# Altium schematic symbol library Schlib1.SchLib: 6 symbols
Pins are listed as number, name and electrical type; pins without a type are passive.

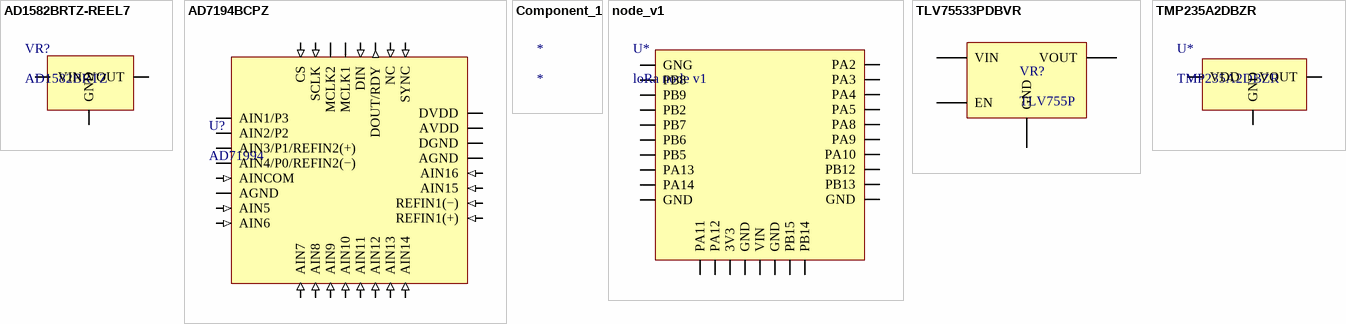
[diagram p0: symbols AD1582BRTZ-REEL7 to TMP235A2DBZR]

## AD1582BRTZ-REEL7
designator VR?, comment AD1582BRTZ
Voltage References 2.5V MICROPOWER REF IC; Manufacturer: Analog Devices; Manufacturer Part Number: AD1582BRTZ-REEL7; Accuracy: 3.5 mV/mA; Description/Function: 2.5 V micropower, precision series mode voltage reference; Input Voltage: 2.7 V to 12 V; Output Current: 5 mA; Temperature Coefficient: 50 PPM/C; Reference Type: Series Precision References; Topology: Series References; Operating Supply Current: 70 uA; Supplier 1: Mouser; RoHS: RoHS Compliant; Category: Voltage References; Stock 1: 7339; Pricing 1: 1=1.97, 10=1.79, 25=1.60, 100=1.46, 250=1.31, 500=1.14, 1000=0.952, 3000=0.919 (EUR); Height: 1.02 mm (Max); Length: 2.9 mm; Output Voltage: 2.5 V; Package / Case: SOT-23-3; Packaging: Cut Tape; Product: Voltage References; Series: AD1582; Width: 1.3 mm; Brand: Analog Devices; Mounting Style: SMD/SMT; Shunt Current - Max: 5 mA; Load Regulation: 3.5 mV/mA; Maximum Operating Temperature: + 125 C; Minimum Operating Temperature: - 40 C; Product Type: Voltage References; Standard Pack Qty: 3000; Subcategory: PMIC - Power Management ICs; RoHS - Mouser: Y; Minimum Order Quantity: 1; Reeling: True; ComponentLink1URL: https://www.mouser.com/datasheet/2/609/AD1582_1583_1584_1585-876960.pdf; ComponentLink1Description: https://www.mouser.com/datasheet/2/609/AD1582_1583_1584_1585-876960.pdf; Supplier Part Number 1: 584-AD1582BRTZ-R7
pins: 1 VOUT (power), 2 GND (power), 3 VIN (power)

## AD7194BCPZ
designator U?, comment AD71994
Analog to Digital Converters - ADC 8CH Ultra Low Noise 24Bit w/ PGA; Manufacturer: Analog Devices; Manufacturer Part Number: AD7194BCPZ; Input Type: Differential/Pseudo-Differential; Input Voltage: +/- 2.5 V; Number of Converters: 1 Converter; Sampling Rate: 4.8 kS/s; Architecture: Sigma-Delta; Interface Type: Serial, 3-Wire, SPI; Number of Channels: 8 Channel; Reference Type: External; Development Kit: EVAL-AD7194EBZ; Gain Error: +/- 0.005 %FSR; INL - Integral Nonlinearity: +/- 30 ppm of FSR; Number of ADC Inputs: 16 Input/8 Input; Operating Supply Voltage: 3.3 V, 5 V; Pd - Power Dissipation: 29 mW; Sample and Hold: No; Supplier 1: Mouser; RoHS: RoHS Compliant; Category: Analog to Digital Converters - ADC; Stock 1: 878; Pricing 1: 1=13.48, 10=12.23, 25=11.49, 50=11.06, 100=9.96, 250=9.20, 500=8.65, 1000=8.35 (EUR); Height: 0.73 mm; Length: 5 mm; Package / Case: LFCSP-32; Packaging: Tray; Product: Analog to Digital Converters; Resolution: 24 bit; Series: AD7194; Width: 5 mm; Brand: Analog Devices; Mounting Style: SMD/SMT; Maximum Operating Temperature: + 105 C; Minimum Operating Temperature: - 40 C; Product Type: ADCs - Analog to Digital Converters; Standard Pack Qty: 490; Subcategory: Data Converter ICs; RoHS - Mouser: Y; Minimum Order Quantity: 1; Reeling: False; ComponentLink1URL: https://www.mouser.com/datasheet/2/609/AD7194-1501808.pdf; ComponentLink1Description: https://www.mouser.com/datasheet/2/609/AD7194-1501808.pdf; Supplier Part Number 1: 584-AD7194BCPZ
pins: 1 AIN1/P3 (io), 2 AIN2/P2 (io), 3 AIN3/P1/REFIN2(+) (io), 4 AIN4/P0/REFIN2(−) (io), 5 AINCOM (in), 6 AGND (power), 7 AIN5 (in), 8 AIN6 (in), 9 AIN7 (in), 10 AIN8 (in), 11 AIN9 (in), 12 AIN10 (in), 13 AIN11 (in), 14 AIN12 (in), 15 AIN13 (in), 16 AIN14 (in), 17 REFIN1(+) (in), 18 REFIN1(−) (in), 19 AIN15 (in), 20 AIN16 (in), 21 AGND (power), 22 DGND (power), 23 AVDD (power), 24 DVDD (power), 25 SYNC (in), 26 NC (in), 27 DOUT/RDY (out), 28 DIN (in), 29 MCLK1 (io), 30 MCLK2 (io), 31 SCLK (in), 32 CS (in)

## Component_1
designator *

## node_v1
designator U*, comment loRa node v1
pins: 1 GNG (power), 2 PB8 (io), 3 PB9 (io), 4 PB2 (io), 5 PB7 (io), 6 PB6 (io), 7 PB5 (io), 8 PA13 (io), 9 PA14 (io), 10 GND (power), 11 PA11 (io), 12 PA12 (io), 13 3V3 (power), 14 GND (power), 15 VIN (power), 16 GND (power), 17 PB15 (io), 18 PB14 (io), 19 GND (power), 20 PB13 (io), 21 PB12 (io), 22 PA10 (io), 23 PA9 (io), 24 PA8 (io), 25 PA5 (io), 26 PA4 (io), 27 PA3 (io), 28 PA2 (io)

## TLV75533PDBVR
designator VR?, comment TLV755P
LDO Voltage Regulators 500-mA, Low IQ, Small Size, Low Dropout Regulator 5-SOT-23 -40 to 125; Manufacturer: Texas Instruments; Manufacturer Part Number: TLV75533PDBVR; Input Voltage MAX: 5.5 V; Number of Outputs: 1 Output; Output Current: 500 mA; Output Type: Fixed; Output Voltage: 3.3 V; Quiescent Current: 25 uA; Dropout Voltage - Max: 215 mV; PSRR / Ripple Rejection - Typ: 46 dB; Voltage Regulation Accuracy: 1.5 %; CNHTS: 8542319000; Dropout Voltage: 220 mV; Input Voltage MIN: 1.45 V; Line Regulation: 2 mV; Load Regulation: 0.06 V/A; Polarity: Positive; Product Status: New Product; Supplier 1: Mouser; RoHS: RoHS Compliant; Category: LDO Voltage Regulators; Stock 1: 48621; Pricing 1: 1=0.541, 10=0.454, 100=0.292, 1000=0.234, 2000=0.212, 3000=0.197, 9000=0.190 (EUR); Operating Temperature Range: - 40 C to + 125 C; Package / Case: SOT-23-5; Packaging: Cut Tape; Product: LDO Voltage Regulators; Series: TLV755P; Type: Low Quiescent Current, Ultra Small; Brand: Texas Instruments; Mounting Style: SMD/SMT; Output Voltage Range: -; HTS Code: 8542390001; Maximum Operating Temperature: + 125 C; Minimum Operating Temperature: - 40 C; Product Type: LDO Voltage Regulators; Standard Pack Qty: 3000; Subcategory: PMIC - Power Management ICs; RoHS - Mouser: Y; Minimum Order Quantity: 1; Reeling: True; Supplier Part Number 1: 595-TLV75533PDBVR
footprint SOT23-TLV755P
pins: 1 VIN, 2 GND, 3 EN, 5 VOUT

## TMP235A2DBZR
designator U*
Board Mount Temperature Sensors Precision Analog Output Temperature Sensor 3-SOT-23 -40 to 150; Manufacturer: Texas Instruments; Accuracy: +/- 0.5 C; Configuration: Local; Output Current: 500 uA; Shutdown: No Shutdown; Operating Supply Current: 9 uA; Supply Voltage - Max: 5.5 V; Supply Voltage - Min: 2.3 V; Product Status: New Product; Supplier 1: Mouser; Manufacturer Part Number: TMP235A2DBZR; RoHS: RoHS Compliant; Category: Board Mount Temperature Sensors; Stock 1: 13146; Pricing 1: 1=0.786, 10=0.655, 25=0.574, 100=0.406, 250=0.371, 500=0.353, 1000=0.309, 3000=0.296, 6000=0.274 (EUR); Output Type: Analog; Package / Case: SOT-23-3; Packaging: Cut Tape; Product: Analog Temperature Sensors; Series: TMP235; Brand: Texas Instruments; Mounting Style: SMD/SMT; Maximum Operating Temperature: + 150 C; Minimum Operating Temperature: - 40 C; Product Type: Temperature Sensors; Standard Pack Qty: 3000; Subcategory: Sensors; RoHS - Mouser: Y; Minimum Order Quantity: 1; Reeling: True; Supplier Part Number 1: 595-TMP235A2DBZR
pins: 1 VDD (power), 2 VOUT (power), 3 GND (power)